# Altium schematic symbol library OSC_4P_EN.Schlib: 1 symbol
Pins are listed as number, name and electrical type; pins without a type are passive.

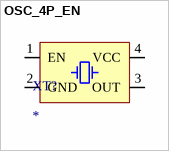
[diagram p0: symbol OSC_4P_EN]

## OSC_4P_EN
designator XT?
oscillator with enable
pins: 1 EN, 2 GND, 3 OUT, 4 VCC